# EAGLE library part MPU6050_MPU6050 (library Connections)
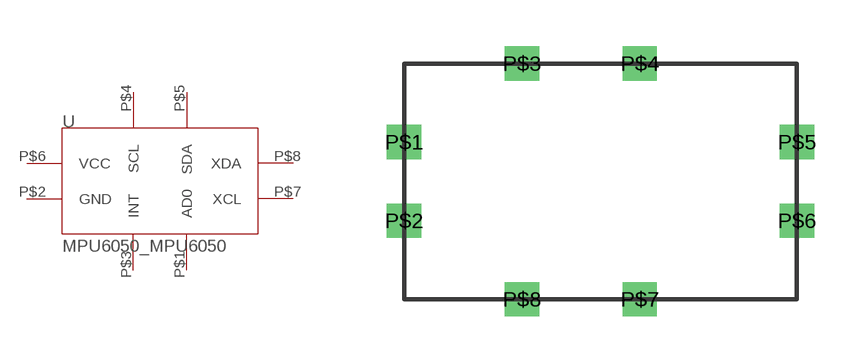
[diagram p2: symbol with the pads of MPU6050_MPU6050; footprint MPU6050_MPU6050]

Designator prefix -

## MPU6050_MPU6050  [MPU6050_MPU6050]
P$1  AD0
P$2  GND
P$3  INT
P$4  SCL
P$5  SDA
P$6  VCC
P$7  XCL
P$8  XDA

## Footprint MPU6050_MPU6050 (pad centres in mm)
drill 0.6 square: P$1 -7.62,1.27; P$2 -7.62,-1.27; P$3 -3.81,3.81; P$4 0,3.81; P$5 5.08,1.27; P$6 5.08,-1.27; P$7 0,-3.81; P$8 -3.81,-3.81